# EAGLE library part TPS62233 (library bodger)
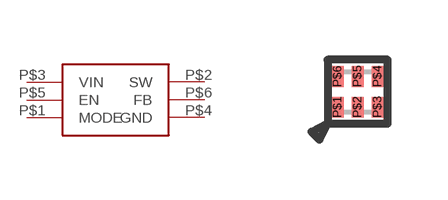
[diagram p45: symbol with the pads of USON-6; footprint USON-6]

Designator prefix -

## TPS62233DRY  [USON-6]
P$1  MODE  in
P$2  SW  out
P$3  VIN  pwr
P$4  GND  pwr
P$5  EN  in
P$6  FB  in

## Footprint USON-6 (pad centres in mm)
smd 0.3 x 0.52: P$1 -0.5,-0.385; P$2 0,-0.385; P$3 0.5,-0.385; P$4 0.5,0.385; P$5 0,0.385; P$6 -0.5,0.385